# Altium footprint library projectThermal.PcbLib: 41 footprints (part 2 of 3)
Each footprint in its own frame and in the unit in brackets; x right, y up, seen from the top. Pads: shape width x height; smd on the part's side, far side on the other; paste and mask are expansions set on the pad; w line width, h text height; cw(c..) or ccw(c..) is an arc to the next point about the centre after c.
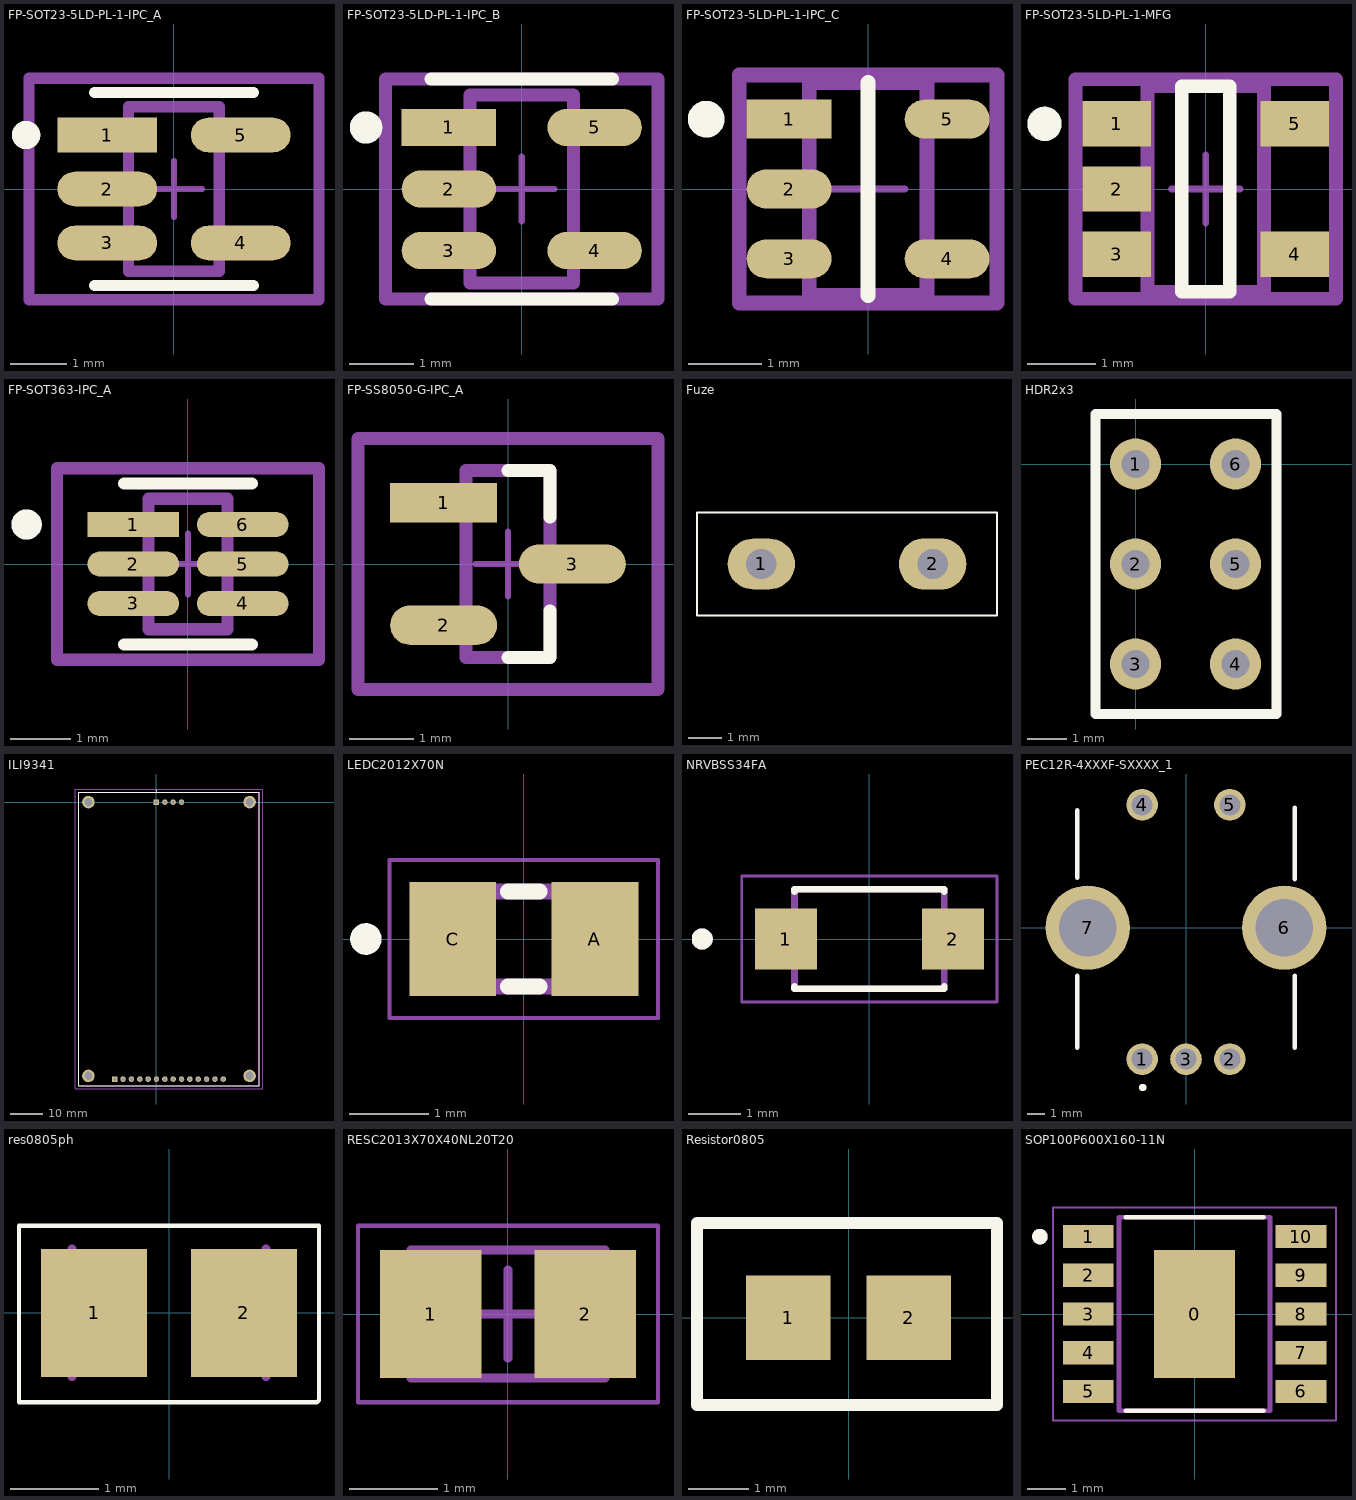
[diagram p1: the footprints below, top view; thin cyan lines are the x and y axes]

## FP-SOT23-5LD-PL-1-IPC_A [mm]
pads (5):
  rect 1.756x0.61 smd paste+0 mask+0: 1(-1.175,0.95)
  rrect100% 1.756x0.61 smd paste+0 mask+0: 2(-1.175,0) 3(-1.175,-0.95) 4(1.175,-0.95) 5(1.175,0.95)
Top Overlay:
  circle w0.25: c-2.603,0.95 r0.125
  lines w0.2: -1.4,-1.7 1.4,-1.7 ; -1.4,1.7 1.4,1.7
Top 3D Body:
  lines w0.2: -0.8,-1.45 -0.8,1.45 0.8,1.45 0.8,-1.45 -0.8,-1.45
Top Courtyard:
  lines w0.2: -2.553,-1.95 -2.553,1.95 2.553,1.95 2.553,-1.95 -2.553,-1.95
Top Assembly:
  lines w0.2: -2.553,-1.95 -2.553,1.95 2.553,1.95 2.553,-1.95 -2.553,-1.95
  text ".Designator" at 0,-0.001 h1
Top Component Center:
  lines w0.1: -0.5,0 0.5,0 ; 0,-0.5 0,0.5
3D body "IC_Microchip_MIC7300YM5-TR_eec.STEP": height 0.25, standoff 0, extent -2.553,-1.95 2.553,1.95

## FP-SOT23-5LD-PL-1-IPC_B [mm]
pads (5):
  rect 1.456x0.57 smd paste+0 mask+0: 1(-1.125,0.95)
  rrect100% 1.456x0.57 smd paste+0 mask+0: 2(-1.125,0) 3(-1.125,-0.95) 4(1.125,-0.95) 5(1.125,0.95)
Top Overlay:
  circle w0.25: c-2.403,0.95 r0.125
  lines w0.2: -1.4,-1.7 1.4,-1.7 ; -1.4,1.7 1.4,1.7
Top 3D Body:
  lines w0.2: -0.8,-1.45 0.8,-1.45 0.8,1.45 -0.8,1.45 -0.8,-1.45
Top Courtyard:
  lines w0.2: -2.103,-1.7 2.103,-1.7 2.103,1.7 -2.103,1.7 -2.103,-1.7
Top Assembly:
  lines w0.2: -2.103,-1.7 2.103,-1.7 2.103,1.7 -2.103,1.7 -2.103,-1.7
  text ".Designator" at 0,-0.001 h1
Top Component Center:
  lines w0.1: -0.5,0 0.5,0 ; 0,-0.5 0,0.5
3D body "IC_Microchip_MIC7300YM5-TR_eec.STEP": height 0.25, standoff 0, extent -2.103,-1.7 2.103,1.7

## FP-SOT23-5LD-PL-1-IPC_C [mm]
pads (5):
  rect 1.156x0.53 smd paste+0 mask+0: 1(-1.075,0.95)
  rrect100% 1.156x0.53 smd paste+0 mask+0: 2(-1.075,0) 3(-1.075,-0.95) 4(1.075,-0.95) 5(1.075,0.95)
Top Overlay:
  circle w0.25: c-2.203,0.95 r0.125
  lines w0.2: -0.003,-1.45 0.003,-1.45 0.003,1.45 -0.003,1.45 -0.003,-1.45
Top 3D Body:
  lines w0.2: -0.8,-1.45 -0.8,1.45 0.8,1.45 0.8,-1.45 -0.8,-1.45
Top Courtyard:
  lines w0.2: -1.753,-1.55 -1.753,1.55 1.753,1.55 1.753,-1.55 -1.753,-1.55
Top Assembly:
  lines w0.2: -1.753,-1.55 -1.753,1.55 1.753,1.55 1.753,-1.55 -1.753,-1.55
  text ".Designator" at 0,0.187 h1
Top Component Center:
  lines w0.1: -0.5,0 0.5,0 ; 0,-0.5 0,0.5
3D body "IC_Microchip_MIC7300YM5-TR_eec.STEP": height 0.25, standoff 0, extent -1.753,-1.55 1.753,1.55

## FP-SOT23-5LD-PL-1-MFG [mm]
pads (5):
  rect 1x0.66 smd paste+0 mask+0: 1(-1.3,0.95) 2(-1.3,0) 3(-1.3,-0.95) 4(1.3,-0.95) 5(1.3,0.95)
Top Overlay:
  circle w0.25: c-2.35,0.95 r0.125
  lines w0.2: -0.35,-1.5 -0.35,1.5 0.35,1.5 0.35,-1.5 -0.35,-1.5
Top 3D Body:
  lines w0.2: -0.85,-1.5 -0.85,1.5 0.85,1.5 0.85,-1.5 -0.85,-1.5
Top Courtyard:
  lines w0.2: -1.9,-1.6 -1.9,1.6 1.9,1.6 1.9,-1.6 -1.9,-1.6
Top Assembly:
  lines w0.2: -1.9,-1.6 -1.9,1.6 1.9,1.6 1.9,-1.6 -1.9,-1.6
  text ".Designator" at 0,0.187 h1
Top Component Center:
  lines w0.1: -0.5,0 0.5,0 ; 0,-0.5 0,0.5
3D body "IC_Microchip_MIC7300YM5-TR_eec.STEP": height 0.25, standoff 0, extent -1.9,-1.6 1.9,1.6

## FP-SOT363-IPC_A [mm]
pads (6):
  rect 1.51x0.412 smd paste+0 mask+0: 1(-0.901,0.65)
  rrect100% 1.51x0.412 smd paste+0 mask+0: 2(-0.901,0) 3(-0.901,-0.65) 4(0.901,-0.65) 5(0.901,0) 6(0.901,0.65)
Top Overlay:
  circle w0.25: c-2.656,0.65 r0.125
  lines w0.2: -1.05,-1.325 1.05,-1.325 ; -1.05,1.325 1.05,1.325
Top 3D Body:
  lines w0.2: -0.65,-1.075 -0.65,1.075 0.65,1.075 0.65,-1.075 -0.65,-1.075
Top Courtyard:
  lines w0.2: -2.156,-1.575 -2.156,1.575 2.156,1.575 2.156,-1.575 -2.156,-1.575
Top Assembly:
  lines w0.2: -2.156,-1.575 -2.156,1.575 2.156,1.575 2.156,-1.575 -2.156,-1.575
  text ".Designator" at 0,0.187 h1
Top Component Center:
  lines w0.1: -0.5,0 0.5,0 ; 0,-0.5 0,0.5
3D body "Trans_Diodes_BSS8402DW-7-F_eec.STEP": height 0.25, standoff 0, extent -2.156,-1.575 2.156,1.575

## FP-SS8050-G-IPC_A [mm]
pads (3):
  rect 1.657x0.612 smd paste+0 mask+0: 1(-1.001,0.95)
  rrect100% 1.657x0.612 smd paste+0 mask+0: 2(-1.001,-0.95) 3(1.001,0)
Top Overlay:
  lines w0.2: 0,-1.45 0.65,-1.45 0.65,-0.725 ; 0,1.45 0.65,1.45 0.65,0.725
Top 3D Body:
  lines w0.2: -0.65,-1.45 -0.65,1.45 0.65,1.45 0.65,-1.45 -0.65,-1.45
Top Courtyard:
  lines w0.2: -2.329,-1.95 -2.329,1.95 2.329,1.95 2.329,-1.95 -2.329,-1.95
Top Assembly:
  lines w0.2: -2.329,-1.95 -2.329,1.95 2.329,1.95 2.329,-1.95 -2.329,-1.95
  text ".Designator" at 0,-0.001 h1
Top Component Center:
  lines w0.1: -0.5,0 0.5,0 ; 0,-0.5 0,0.5
3D body "Trans_Comchip_SS8050-G_eec.STEP": height 0.25, standoff 0, extent -2.329,-1.95 2.329,1.95

## Fuze [mm]
pads (2):
  oval 2x1.5 hole 0.9: 1(-1109.98,129.54)
  oval 2x1.524 hole 0.9: 2(-1104.9,129.54)
Top Overlay:
  lines w0.05: -1111.885,128.016 -1111.885,131.064 -1102.995,131.064 -1102.995,128.397 -1102.995,128.016 -1111.885,128.016

## HDR2x3 [mm]
pads (6):
  round 1.3 hole 0.7: 1(0,0) 2(0,-2.54) 3(0,-5.08) 4(2.54,-5.08) 5(2.54,-2.54) 6(2.54,0)
Top Overlay:
  lines w0.254: 0.635,1.27 3.581,1.27 3.581,-6.35 -1.016,-6.35 -1.016,1.27 1.905,1.27

## ILI9341 [mm]
pads (22):
  rect 1.665x1.665 hole 1.11: A1(0,0) B1(-12.7,-84.3)
  round 1.665 hole 1.11: A2(2.54,0) A3(5.08,0) A4(7.62,0) B2(-10.16,-84.3) B3(-7.62,-84.3) B4(-5.08,-84.3) B5(-2.54,-84.3) B6(0,-84.3) B7(2.54,-84.3) B8(5.08,-84.3) B9(7.62,-84.3) B10(10.16,-84.3) B11(12.7,-84.3) B12(15.24,-84.3) B13(17.78,-84.3) B14(20.32,-84.3)
  round 3.81 hole 2.54: MH1(-20.71,0) MH2(28.33,0) MH3(-20.71,-83.3) MH4(28.33,-83.3)
Top Overlay:
  lines w0.1: 0,3.5 ccw(c0,3.55) 0,3.6 ccw(c0,3.55) 0,3.5
  lines w0.2: -23.71,-86.3 31.33,-86.3 31.33,3 -23.71,3 -23.71,-86.3
Mechanical 13:
  lines w0.1: -23.71,-86.3 31.33,-86.3 31.33,3 -23.71,3 -23.71,-86.3
Mechanical 15:
  lines w0.1: -24.71,-87.3 32.33,-87.3 32.33,4 -24.71,4 -24.71,-87.3
3D body "ILI9341.stp": height 7.1, standoff -5, extent -23.71,-86.3 31.33,3

## LEDC2012X70N [mm]
pads (2):
  rect 1.1x1.45 smd: A(0.9,0) C(-0.9,0)
Top Overlay:
  circle w0.2: c-2,0 r0.1
  lines w0.2: -0.2,-0.6 0.2,-0.6 ; -0.2,0.6 0.2,0.6
Mechanical 13:
  region: 1,-0.6 0.5,-0.6 0.5,0.6 1,0.6
  region: -0.5,-0.6 -1,-0.6 -1,0.6 -0.5,0.6
  lines w0.2: -1,-0.6 -1,0.6 1,0.6 1,-0.6 -1,-0.6
Mechanical 15:
  lines w0.05: -1.7,-1 -1.7,1 1.7,1 1.7,-1 -1.7,-1
3D body "step_temp.STEP": height 0.7, standoff 0, extent -1,-0.625 1,0.625

## NRVBSS34FA [mm]
pads (2):
  rect 1.18x1.17 smd: 1(-1.59,0) 2(1.59,0)
Top Overlay:
  circle w0.2: c-3.18,0 r0.1
  lines w0.127: -1.425,-0.905 -1.425,-0.95 1.425,-0.95 1.425,-0.905 ; -1.425,0.905 -1.425,0.95 1.425,0.95 1.425,0.905
Mechanical 13:
  circle w0.2: c-3.18,0 r0.1
  lines w0.127: -1.425,-0.95 1.425,-0.95 1.425,0.95 -1.425,0.95 -1.425,-0.95
Mechanical 15:
  lines w0.05: -2.43,-1.2 2.43,-1.2 2.43,1.2 -2.43,1.2 -2.43,-1.2
3D body "step_temp.STEP": height 1.43, standoff 0, extent -1.8,-0.9 1.8,0.9

## PEC12R-4XXXF-SXXXX_1 [mm]
pads (7):
  round 1.8 hole 1.2: 1(-2.5,-7.5) 2(2.5,-7.5) 3(0,-7.5) 4(-2.5,7) 5(2.5,7)
  round 4.8 hole 3.28: 6(5.6,0) 7(-5.6,0)
Top Overlay:
  circle w0.254: c-2.464,-9.119 r0.082
  lines w0.254: -6.2,6.7 -6.198,2.845 ; -6.198,-6.843 -6.198,-2.743 ; 6.198,-6.843 6.198,-2.743 ; 6.198,2.743 6.198,6.843

## res0805ph [mm] "Chip Resistor, 2-Leads, Body 2.00x1.25mm, IPC Medium Density"
height 0.6
pads (2):
  rect 1.2x1.45 smd: 1(-0.85,0) 2(0.85,0)
Top Overlay:
  lines w0.05: -1.702,-1.016 1.676,-1.016 1.702,-0.991 1.702,0.991 -1.702,0.991 -1.702,-1.016
Mechanical 13:
  lines w0.1: -1.1,-0.725 -1.1,0.725 ; 1.1,-0.725 1.1,0.725
3D body: height 0.6, standoff 0, extent -1.1,-0.725 -0.7,0.725
3D body: height 0.6, standoff 0, extent 0.7,-0.725 1.1,0.725

## RESC2013X70X40NL20T20 [mm] "Chip Resistor, 2-Leads, Body 2.2x1.35mm, IPC Medium Density"
height 0.7
pads (2):
  rect 1.15x1.45 smd: 1(-0.875,0) 2(0.875,0)
Mechanical 13:
  lines w0.1: -1.1,-0.725 1.1,-0.725 1.1,0.725 -1.1,0.725 -1.1,-0.725
Mechanical 15:
  lines w0.05: -1.7,-1 1.7,-1 1.7,1 -1.7,1 -1.7,-1
  lines w0.1: -0.5,0 0.5,0 ; 0,-0.5 0,0.5
3D body: height 0.7, standoff 0, extent 0.7,-0.725 1.1,0.725
3D body: height 0.7, standoff 0, extent -1.1,-0.725 -0.7,0.725
3D body: height 0.7, standoff 0, extent -0.7,-0.725 0.7,0.725

## Resistor0805 [mm]
pads (2):
  rect 1.4x1.4 smd: 1(-1,0) 2(1,0)
Top Overlay:
  lines w0.2: -2.515,-1.448 -2.515,-0.985 -2.515,1.575 2.464,1.575 2.464,-1.448 -2.515,-1.448

## SOP100P600X160-11N [mm]
height 1.6
pads (11):
  rect 2.1x3.3 smd paste-3: 0(0,0)
  rect 1.31x0.6 smd: 1(-2.75,2) 2(-2.75,1) 3(-2.75,0) 4(-2.75,-1) 5(-2.75,-2) 6(2.75,-2) 7(2.75,-1) 8(2.75,0) 9(2.75,1) 10(2.75,2)
Top Overlay:
  circle w0.2: c-4,2 r0.1
  lines w0.127: -1.78,-2.5 1.78,-2.5 ; -1.78,2.5 1.78,2.5
Top Paste:
  region: 0.664,-1.044 -0.664,-1.044 -0.664,1.044 0.664,1.044
Mechanical 13:
  circle w0.2: c-4,2 r0.1
  lines w0.127: -1.95,-2.5 -1.95,2.5 1.95,2.5 1.95,-2.5 -1.95,-2.5
Mechanical 15:
  lines w0.05: -3.655,-2.75 -3.655,2.75 3.655,2.75 3.655,-2.75 -3.655,-2.75
3D body "step_temp.STEP": height 1.6, standoff 0, extent -3,-2.5 3,2.5